# Altium footprint library Connectors.PcbLib: 40 footprints (part 2 of 3)
Each footprint in its own frame and in the unit in brackets; x right, y up, seen from the top. Pads: shape width x height; smd on the part's side, far side on the other; paste and mask are expansions set on the pad; w line width, h text height; cw(c..) or ccw(c..) is an arc to the next point about the centre after c.
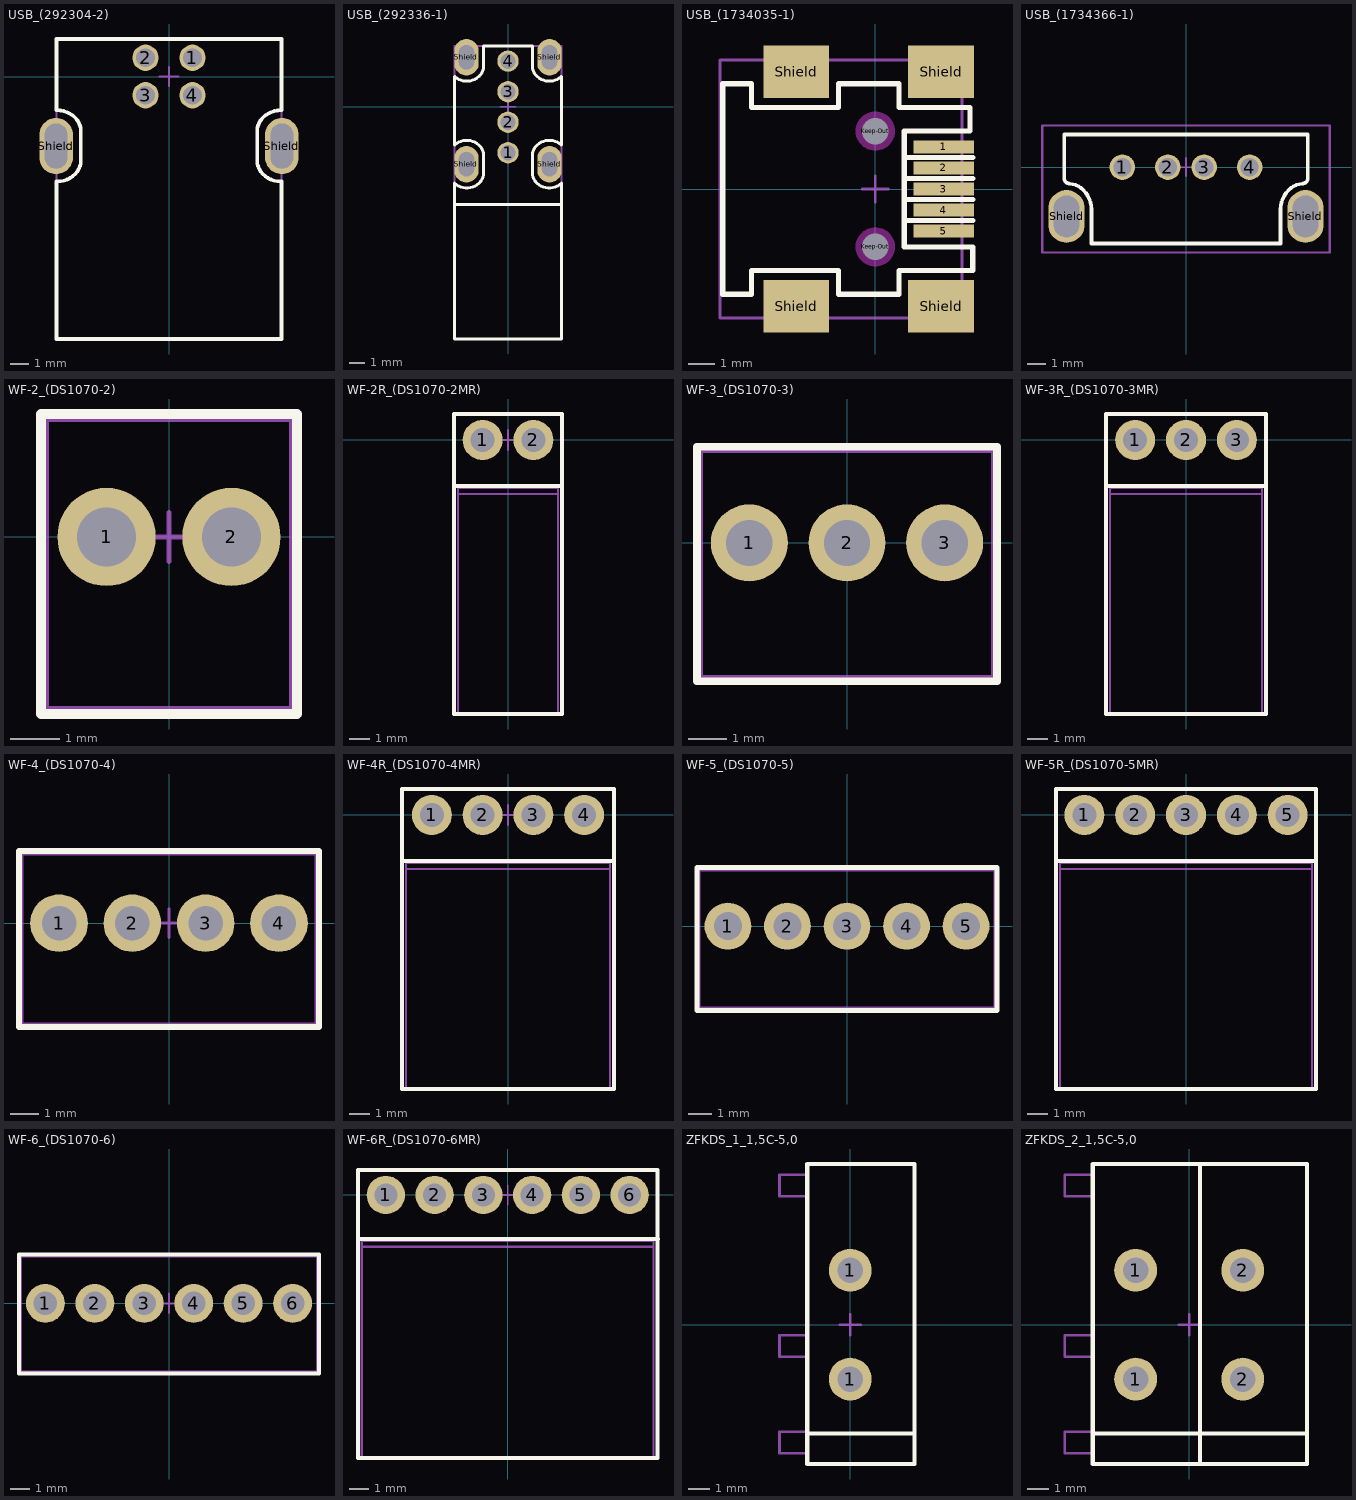
[diagram p1: the footprints below, top view; thin cyan lines are the x and y axes]

## USB_(292304-2) [mm] "USB Connector, TE Connectivity Type 292304-2, Single Type B"
height 2.5
pads (6):
  round 1.4 hole 1 mask+0.1: 1(1.25,1) 2(-1.25,1) 3(-1.25,-1) 4(1.25,-1)
  oval 1.8x3 hole 1.2 slot 2.4 at 90 deg mask+0.1: Shield(-6.02,-3.71) Shield(6.02,-3.71)
Top Overlay:
  lines w0.2: -6,-5.6 -6,-14 6,-14 6,-5.6 ; -6,-1.8 -6,2 6,2 6,-1.8 ; -5.966,-5.6 ccw(c-5.966,-4.234) -5,-5.2 ccw(c-5.724,-4.476) -4.7,-4.476 -4.7,-2.924 ccw(c-5.724,-2.924) -5,-2.2 ccw(c-5.966,-3.166) -5.966,-1.8 ; 5.966,-5.6 cw(c5.966,-4.234) 5,-5.2 cw(c5.724,-4.476) 4.7,-4.476 4.7,-2.924 cw(c5.724,-2.924) 5,-2.2 cw(c5.966,-3.166) 5.966,-1.8
ReperDotTop:
  lines w0.1: -0.5,0 0.5,0 ; 0,-0.5 0,0.5
AssemblyOutlineTop:
  lines w0.12: -6,-14 6,-14 6,2 -6,2 -6,-14
  text "'.Designator'" at 0,0 h2.5
3D body "41j2935_292304-1.stp": height 11.8, standoff -3.62, extent -7.22,-13.975 7.17,1.725

## USB_(292336-1) [mm] "USB Connector, TE Connectivity Type 292336-1, Vertical, Single Type A"
height 2.5
pads (8):
  round 1.4 hole 1 mask+0.102: 1(0,-3) 2(0,-1) 3(0,1) 4(0,3)
  oval 1.6x2.4 hole 1 slot 1.6 at 90 deg mask+0.102: Shield(-2.72,-3.75) Shield(-2.72,3.25) Shield(2.72,-3.75) Shield(2.72,3.25)
Top Overlay:
  lines w0.2: -3.5,-6.4 3.5,-6.4 ; -1.9,-5 cw(c-2.624,-4.276) -2.624,-5.3 -2.776,-5.3 cw(c-2.776,-4.276) -3.5,-5 -3.5,-15.2 3.5,-15.2 3.5,-5 cw(c2.776,-4.276) 2.776,-5.3 2.624,-5.3 cw(c2.624,-4.276) 1.9,-5 ; -1.9,-2.5 ccw(c-2.624,-3.224) -2.624,-2.2 -2.776,-2.2 ccw(c-2.776,-3.224) -3.5,-2.5 -3.5,2 ccw(c-2.776,2.724) -2.776,1.7 -2.7,1.7 -2.624,1.7 ccw(c-2.624,2.724) -1.9,2 -1.883,2.017 ccw(c-2.566,2.7) -1.6,2.7 -1.6,4 1.6,4 1.6,2.7 ccw(c2.566,2.7) 1.883,2.017 ; -1.883,-4.983 ccw(c-2.566,-4.3) -1.6,-4.3 -1.6,-3.2 ccw(c-2.566,-3.2) -1.883,-2.517 ; 1.883,-4.983 cw(c2.566,-4.3) 1.6,-4.3 1.6,-3.2 cw(c2.566,-3.2) 1.883,-2.517 ; 1.9,-2.5 cw(c2.624,-3.224) 2.624,-2.2 2.776,-2.2 cw(c2.776,-3.224) 3.5,-2.5 3.5,2 cw(c2.776,2.724) 2.776,1.7 2.624,1.7 cw(c2.624,2.724) 1.9,2
ReperDotTop:
  lines w0.1: -0.5,0 0.5,0 ; 0,-0.5 0,0.5
AssemblyOutlineTop:
  lines w0.12: -3.5,-15.2 -3.5,4 3.5,4 3.5,-15.2 -3.5,-15.2
  text "'.Designator'" at 0,0 h2.5
3D body "14379.stp": height 14.65, standoff -3.5, extent -3.56,-15.25 3.56,4

## USB_(1734035-1) [mm] "USB Connector, TE Connectivity Type 1734035-1, Single Type B"
height 2.5
pads (13):
  rect 2.3x0.5 smd mask+0.1: 1(2.6,1.6) 2(2.6,0.8) 3(2.6,0) 4(2.6,-0.8) 5(2.6,-1.6)
  rect 0x0 hole 1 mask+0.1: HOLE(0,-2.2) HOLE(0,2.2)
  round 1.5 on Keep-Out mask+0.1: Keep-Out(0,-2.2) Keep-Out(0,2.2)
  rect 2.5x2 smd mask+0.1: Shield(-3,-4.45) Shield(-3,4.45) Shield(2.5,-4.45) Shield(2.5,4.45)
Top Overlay:
  lines w0.2: 1.1,-1.2 3.7,-1.2 ; 1.1,-0.4 3.7,-0.4 ; 1.1,0.4 3.7,0.4 ; 1.1,1.2 3.7,1.2 ; -5.8,-4 -4.7,-4 -4.7,-3.1 -1.4,-3.1 -1.4,-4 0.9,-4 0.9,-3.1 3.7,-3.1 3.7,-2.2 1.1,-2.2 1.1,2.2 3.6,2.2 3.6,3.1 0.9,3.1 0.9,4 -1.4,4 -1.4,3.1 -4.7,3.1 -4.7,4 -5.8,4 -5.8,-4
ReperDotTop:
  lines w0.1: -0.5,0 0.5,0 ; 0,-0.5 0,0.5
AssemblyOutlineTop:
  lines w0.12: -5.9,-4.9 -5.9,4.9 3.3,4.9 3.3,-4.9 -5.9,-4.9
  text "'.Designator'" at 0,0 h2.5
3D body "c-1734035-1-f-3d.stp": height 4.14, standoff -0.95, extent -5.9,-4.95 3.3,4.95

## USB_(1734366-1) [mm] "USB Connector, TE Connectivity Type 1734366-1, Vertical, Single Type A"
height 2.5
pads (6):
  round 1.4 hole 1 unplated mask+0.1: 1(-3.5,0) 2(-1,0) 3(1,0) 4(3.5,0)
  oval 2x2.9 hole 1.4 slot 2.3 at 90 deg unplated mask+0.1: Shield(-6.57,-2.71) Shield(6.57,-2.71)
Top Overlay:
  lines w0.2: -6.7,-0.604 ccw(c-6.4,-0.604) -6.4,-0.904 cw(c-6.5,-2.107) -5.646,-1.254 cw(c-6.724,-2.331) -5.2,-2.331 -5.2,-4.2 5.2,-4.2 5.2,-2.331 cw(c6.724,-2.331) 5.646,-1.254 cw(c6.5,-2.107) 6.4,-0.904 ccw(c6.4,-0.604) 6.7,-0.604 6.7,1.8 -6.7,1.8 -6.7,-0.604
ReperDotTop:
  lines w0.1: -0.5,0 0.5,0 ; 0,-0.5 0,0.5
AssemblyOutlineTop:
  lines w0.12: -7.9,-4.7 7.9,-4.7 7.9,2.3 -7.9,2.3 -7.9,-4.7
  text "'.Designator'" at 0,0 h2.5
3D body "c-1734366-1-c1-3d.stp": height 15.05, standoff -3.88, extent -7.899,-4.76 7.9,2.36

## WF-2_(DS1070-2) [mm] "DS1070-2 Package, Connfly, 2 pins, Pitch 2.54mm (0.1inch)"
height 2.5
pads (2):
  round 2 hole 1.2 unplated mask+0.1: 1(-1.27,0) 2(1.27,0)
Top Overlay:
  lines w0.2: -2.6,-3.6 -2.6,2.5 2.6,2.5 2.6,-3.6 -2.6,-3.6
ReperDotTop:
  lines w0.1: -0.5,0 0.5,0 ; 0,-0.5 0,0.5
AssemblyOutlineTop:
  lines w0.12: -2.5,-3.5 -2.5,2.4 2.5,2.4 2.5,-3.5 -2.5,-3.5
  text "'.Designator'" at 0,0 h2.5
3D body "User Library-DS1070-2 (WF-2 CONNFLY).step": height 11.4, standoff -3.3, extent -2.54,-3.5 2.54,2.4

## WF-2R_(DS1070-2MR) [mm] "DS1070-2MR Package, Connfly, 2 pins, Pitch 2.54mm (0.1inch)"
height 2.5
pads (2):
  round 2 hole 1.2 unplated mask+0.1: 1(-1.27,0) 2(1.27,0)
Top Overlay:
  lines w0.2: -2.7,-2.3 2.7,-2.3 ; -2.7,-13.7 2.7,-13.7 2.7,1.3 -2.7,1.3 -2.7,-13.7
ReperDotTop:
  lines w0.1: -0.5,0 0.5,0 ; 0,-0.5 0,0.5
AssemblyOutlineTop:
  lines w0.12: -2.5,-2.7 2.5,-2.7 ; -2.5,-13.7 2.5,-13.7 2.5,-2.4 -2.5,-2.4 -2.5,-13.7
  text "'.Designator'" at 0,0 h2.5
3D body "User Library-DS1070-2MR (WF-2RA CONNFLY).step": height 5.9, standoff -3.4, extent -2.54,-13.78 2.54,0.32

## WF-3_(DS1070-3) [mm] "DS1070-3 Package, Connfly, 3 pins, Pitch 2.54mm (0.1inch)"
height 2.5
pads (3):
  round 2 hole 1.2 unplated mask+0.1: 1(-2.54,0) 2(0,0) 3(2.54,0)
Top Overlay:
  lines w0.2: -3.9,-3.6 3.9,-3.6 3.9,2.5 -3.9,2.5 -3.9,-3.6
ReperDotTop:
  lines w0.1: -0.5,0 0.5,0 ; 0,-0.5 0,0.5
AssemblyOutlineTop:
  lines w0.12: -3.8,-3.5 3.8,-3.5 3.8,2.4 -3.8,2.4 -3.8,-3.5
  text "'.Designator'" at 0,0 h2.5
3D body "User Library-DS1070-3 (WF-3 CONNFLY).step": height 11.4, standoff -3.3, extent -3.81,-3.5 3.81,2.4

## WF-3R_(DS1070-3MR) [mm] "DS1070-3MR Package, Connfly, 3 pins, Pitch 2.54mm (0.1inch)"
height 2.5
pads (3):
  round 2 hole 1.2 unplated mask+0.1: 1(-2.54,0) 2(0,0) 3(2.54,0)
Top Overlay:
  lines w0.2: -4,-2.3 4,-2.3 ; -4,-13.7 4,-13.7 4,1.3 -4,1.3 -4,-13.7
ReperDotTop:
  lines w0.1: -0.5,0 0.5,0 ; 0,-0.5 0,0.5
AssemblyOutlineTop:
  lines w0.12: -3.8,-2.7 3.8,-2.7 ; -3.8,-13.7 3.8,-13.7 3.8,-2.4 -3.8,-2.4 -3.8,-13.7
  text "'.Designator'" at 0,0 h2.5
3D body "User Library-DS1070-3MR (WF-3RA CONNFLY).step": height 5.9, standoff -3.4, extent -3.81,-13.78 3.81,0.32

## WF-4_(DS1070-4) [mm] "DS1070-4 Package, Connfly, 4 pins, Pitch 2.54mm (0.1inch)"
height 2.5
pads (4):
  round 2 hole 1.2 unplated mask+0.1: 1(-3.81,0) 2(-1.27,0) 3(1.27,0) 4(3.81,0)
Top Overlay:
  lines w0.2: -5.2,-3.6 5.2,-3.6 5.2,2.5 -5.2,2.5 -5.2,-3.6
ReperDotTop:
  lines w0.1: -0.5,0 0.5,0 ; 0,-0.5 0,0.5
AssemblyOutlineTop:
  lines w0.12: -5.1,-3.5 5.1,-3.5 5.1,2.4 -5.1,2.4 -5.1,-3.5
  text "'.Designator'" at 0,0 h2.5
3D body "User Library-DS1070-4 (WF-4 CONNFLY).step": height 11.4, standoff -3.3, extent -5.08,-3.5 5.08,2.4

## WF-4R_(DS1070-4MR) [mm] "DS1070-4MR Package, Connfly, 4 pins, Pitch 2.54mm (0.1inch)"
height 2.5
pads (4):
  round 2 hole 1.2 unplated mask+0.1: 1(-3.81,0) 2(-1.27,0) 3(1.27,0) 4(3.81,0)
Top Overlay:
  lines w0.2: -5.27,-2.3 5.3,-2.3 ; -5.3,-13.7 5.3,-13.7 5.3,1.3 -5.3,1.3 -5.3,-13.7
ReperDotTop:
  lines w0.1: -0.5,0 0.5,0 ; 0,-0.5 0,0.5
AssemblyOutlineTop:
  lines w0.12: -5.1,-2.7 5.1,-2.7 ; -5.1,-13.7 5.1,-13.7 5.1,-2.4 -5.1,-2.4 -5.1,-13.7
  text "'.Designator'" at 0,0 h2.5
3D body "User Library-DS1070-4MR (WF-4RA CONNFLY).step": height 5.9, standoff -3.4, extent -5.08,-13.78 5.08,0.32

## WF-5_(DS1070-5) [mm] "DS1070-5 Package, Connfly, 5 pins, Pitch 2.54mm (0.1inch)"
height 2.5
pads (5):
  round 2 hole 1.2 unplated mask+0.1: 1(-5.08,0) 2(-2.54,0) 3(0,0) 4(2.54,0) 5(5.08,0)
Top Overlay:
  lines w0.2: -6.4,-3.6 -6.4,2.5 6.4,2.5 6.4,-3.6 -6.4,-3.6
ReperDotTop:
  lines w0.1: -0.5,0 0.5,0 ; 0,-0.5 0,0.5
AssemblyOutlineTop:
  lines w0.12: -6.3,-3.5 -6.3,2.4 6.3,2.4 6.3,-3.5 -6.3,-3.5
  text "'.Designator'" at 0,0 h2.5
3D body "User Library-DS1070-5 (WF-5 CONNFLY).step": height 11.4, standoff -3.3, extent -6.35,-3.5 6.35,2.4

## WF-5R_(DS1070-5MR) [mm] "DS1070-5MR Package, Connfly, 5 pins, Pitch 2.54mm (0.1inch)"
height 2.5
pads (5):
  round 2 hole 1.2 unplated mask+0.1: 1(-5.08,0) 2(-2.54,0) 3(0,0) 4(2.54,0) 5(5.08,0)
Top Overlay:
  lines w0.2: -6.5,-2.3 6.5,-2.3 ; -6.5,-13.7 -6.5,1.3 6.5,1.3 6.5,-13.7 -6.5,-13.7
ReperDotTop:
  lines w0.1: -0.5,0 0.5,0 ; 0,-0.5 0,0.5
AssemblyOutlineTop:
  lines w0.12: -6.3,-2.7 6.3,-2.7 ; -6.3,-13.7 -6.3,-2.4 6.3,-2.4 6.3,-13.7 -6.3,-13.7
  text "'.Designator'" at 0,0 h2.5
3D body "User Library-DS1070-5MR (WF-5RA CONNFLY).step": height 5.9, standoff -3.4, extent -6.35,-13.78 6.35,0.32

## WF-6_(DS1070-6) [mm] "DS1070-6 Package, Connfly, 6 pins, Pitch 2.54mm (0.1inch)"
height 2.5
pads (6):
  round 2 hole 1.2 unplated mask+0.1: 1(-6.35,0) 2(-3.81,0) 3(-1.27,0) 4(1.27,0) 5(3.81,0) 6(6.35,0)
Top Overlay:
  lines w0.2: -7.7,-3.6 -7.7,2.5 7.7,2.5 7.7,-3.6 -7.7,-3.6
ReperDotTop:
  lines w0.1: -0.5,0 0.5,0 ; 0,-0.5 0,0.5
AssemblyOutlineTop:
  lines w0.12: -7.6,-3.5 -7.6,2.4 7.6,2.4 7.6,-3.5 -7.6,-3.5
  text "'.Designator'" at 0,0 h2.5
3D body "User Library-DS1070-6 (WF-6 CONNFLY).step": height 11.4, standoff -3.3, extent -7.62,-3.5 7.62,2.4

## WF-6R_(DS1070-6MR) [mm] "DS1070-6MR Package, Connfly, 6 pins, Pitch 2.54mm (0.1inch)"
height 2.5
pads (6):
  round 2 hole 1.2 unplated mask+0.1: 1(-6.35,0) 2(-3.81,0) 3(-1.27,0) 4(1.27,0) 5(3.81,0) 6(6.35,0)
Top Overlay:
  lines w0.2: -7.8,-2.3 7.83,-2.3 ; -7.8,-13.7 7.8,-13.7 7.8,1.3 -7.8,1.3 -7.8,-13.7
ReperDotTop:
  lines w0.1: -0.5,0 0.5,0 ; 0,-0.5 0,0.5
AssemblyOutlineTop:
  lines w0.12: -7.57,-2.7 7.6,-2.7 ; -7.6,-13.7 7.6,-13.7 7.6,-2.4 -7.6,-2.4 -7.6,-13.7
  text "'.Designator'" at 0,0 h2.5
3D body "User Library-DS1070-6MR (WF-6RA CONNFLY).step": height 5.9, standoff -3.4, extent -7.62,-13.78 7.62,0.32

## ZFKDS_1_1,5C-5,0 [mm] "ZFKDS 1,5C-5,0, Phoenix Contact, 1 pins, Pitch 5mm"
height 2.5
pads (2):
  round 2 hole 1.2 unplated mask+0.1: 1(0,-2.54) 1(0,2.54)
Top Overlay:
  lines w0.2: -2,-5.08 3,-5.08 ; -2,-6.5 3,-6.5 3,7.5 -2,7.5 -2,-6.5
ReperDotTop:
  lines w0.1: -0.5,0 0.5,0 ; 0,-0.5 0,0.5
AssemblyOutlineTop:
  lines w0.12: -2,-6 -3.3,-6 -3.3,-5 -2,-5 ; -2,-1.5 -3.3,-1.5 -3.3,-0.5 -2,-0.5 ; -2,6 -3.3,6 -3.3,7 -2,7 ; -2,-6.5 -2,7.5 3,7.5 3,-6.5 -2,-6.5
  text "'.Designator'" at 0,0 h2.5
3D body "pxc_1889259_01_ZFKDS-1-5C-5-0_3D.stp": height 12.8, standoff -3.45, extent -3.4,-6.56 3,7.54

## ZFKDS_2_1,5C-5,0 [mm] "ZFKDS 1,5C-5,0, Phoenix Contact, 2 pins, Pitch 5mm"
height 2.5
pads (4):
  round 2 hole 1.2 unplated mask+0.1: 1(-2.5,-2.54) 1(-2.5,2.54) 2(2.5,-2.54) 2(2.5,2.54)
Top Overlay:
  lines w0.2: -4.5,-5.08 5.5,-5.08 ; 0.5,-6.5 0.5,7.5 ; 0.5,-6.5 5.5,-6.5 5.5,7.5 0.5,7.5 ; 0.5,-6.5 -4.5,-6.5 -4.5,7.5 0.5,7.5 ; 0.5,-6.5 0.5,7.5
ReperDotTop:
  lines w0.1: -0.5,0 0.5,0 ; 0,-0.5 0,0.5
AssemblyOutlineTop:
  lines w0.12: -4.5,-6 -5.8,-6 -5.8,-5 -4.5,-5 ; -4.5,-1.5 -5.8,-1.5 -5.8,-0.5 -4.5,-0.5 ; -4.5,6 -5.8,6 -5.8,7 -4.5,7 ; 0.5,-6.5 5.5,-6.5 5.5,7.5 0.5,7.5 ; 0.5,-6.5 0.5,7.5 ; 0.5,-6.5 -4.5,-6.5 -4.5,7.5 0.5,7.5 ; 0.5,-6.5 0.5,7.5
  text "'.Designator'" at 0,0 h2.5
3D body "pxc_1889259_01_ZFKDS-1-5C-5-0_3D.stp": height 12.75, standoff -3.5, extent -0.9,-6.56 5.5,7.54
3D body "pxc_1889259_01_ZFKDS-1-5C-5-0_3D.stp": height 12.8, standoff -3.45, extent -5.9,-6.56 0.5,7.54